# Altium footprint library Oscillators.PcbLib: 8 footprints
Each footprint in its own frame and in the unit in brackets; x right, y up, seen from the top. Pads: shape width x height; smd on the part's side, far side on the other; paste and mask are expansions set on the pad; w line width, h text height; cw(c..) or ccw(c..) is an arc to the next point about the centre after c.
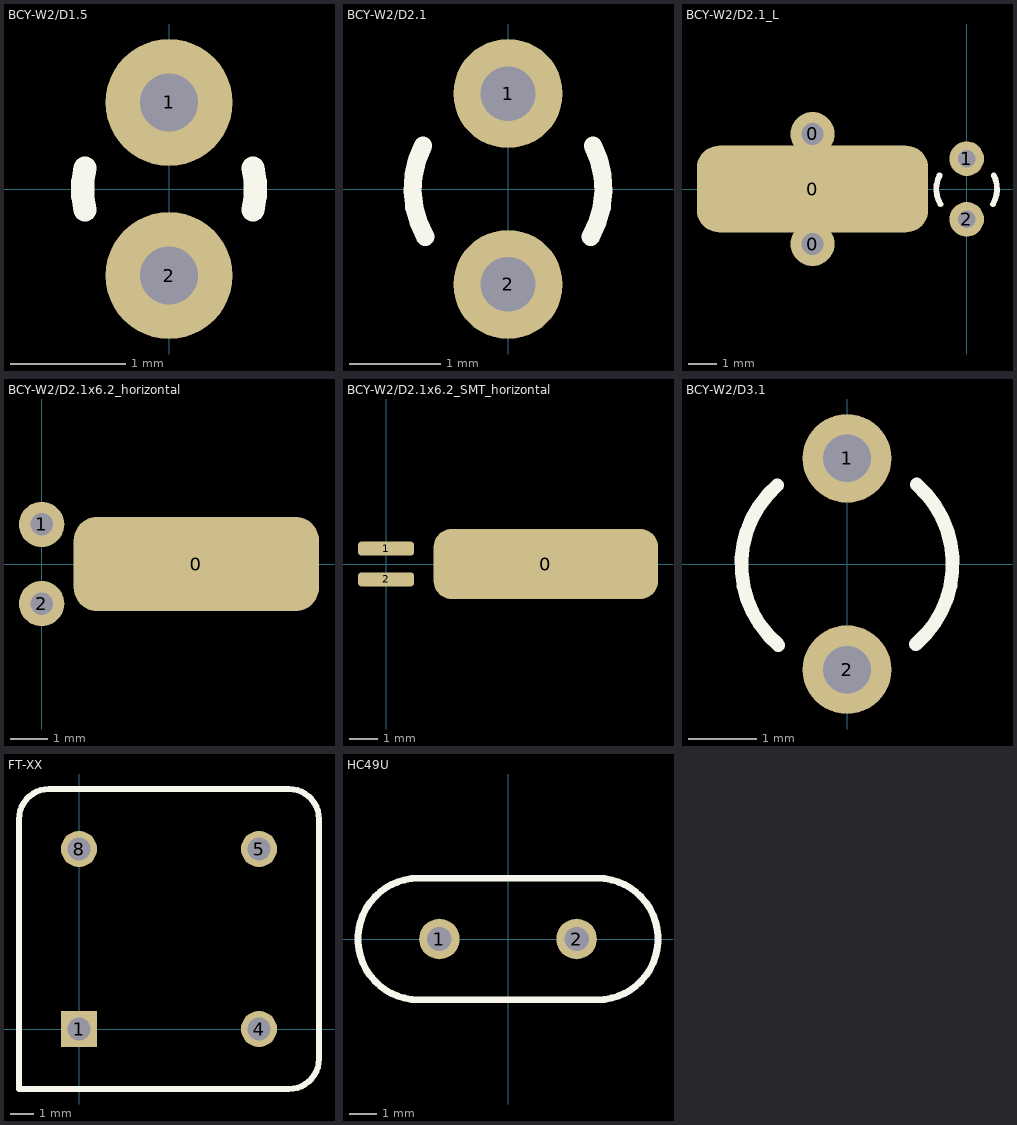
[diagram p0: the footprints below, top view; thin cyan lines are the x and y axes]

## BCY-W2/D1.5 [mm] "Crystal, Thru-Hole; 2 Leads; Body 1.5 x 5.1 mm (Dia.xH)"
height 5.1
pads (2):
  round 1.1 hole 0.5: 1(0,0.75) 2(0,-0.75)
Top Overlay:
  lines w0.2: -0.728,-0.181 cw(c0,0) -0.728,0.181 ; 0.728,-0.181 ccw(c0,0) 0.728,0.181

## BCY-W2/D2.1 [mm] "Crystal, Thru-Hole; 2 Leads; Body 2.1 x 6.2 mm (Dia.xH)"
height 6.2
pads (2):
  round 1.2 hole 0.6: 1(0,1.05) 2(0,-1.05)
Top Overlay:
  lines w0.2: -0.936,0.477 ccw(c0,0) -0.909,-0.525 ; 0.909,-0.525 ccw(c0,0) 0.936,0.477

## BCY-W2/D2.1_L [mm] "Crystal, Thru-Hole; 2 Leads; Body 2.1 x 6.2 mm (Dia.xH)"
height 6.2
pads (5):
  round 1.524 hole 0.762: 0(-5.334,-1.905) 0(-5.334,1.905)
  rrect50% 8x3 smd: 0(-5.334,0)
  round 1.2 hole 0.6: 1(0,1.05) 2(0,-1.05)
Top Overlay:
  lines w0.2: -0.936,0.477 ccw(c0,0) -0.909,-0.525 ; 0.909,-0.525 ccw(c0,0) 0.936,0.477

## BCY-W2/D2.1x6.2_horizontal [mm] "Crystal, Thru-Hole; 2 Leads; Body 2.1 x 6.2 mm (Dia.xH) Horizontal"
height 3
pads (3):
  rrect50% 6.5x2.5 smd: 0(4.1,0)
  round 1.2 hole 0.6: 1(0,1.05) 2(0,-1.05)
3D body: height 1.99, standoff 0, extent 1,-0.998 7.2,0.998

## BCY-W2/D2.1x6.2_SMT_horizontal [mm] "Crystal, Thru-Hole; 2 Leads; Body 2.1 x 6.2 mm (Dia.xH) Horizontal"
height 3
pads (3):
  rrect50% 8x2.5 smd: 0(5.7,0)
  rrect50% 2x0.5 smd: 1(0,0.55) 2(0,-0.55)
3D body: height 1.99, standoff 0, extent 1.7,-1 9.7,0.996

## BCY-W2/D3.1 [mm] "Crystal, Thru-Hole; 2 Leads; Body 3.1 x 8.2 mm (Dia.xH)"
height 8.2
pads (2):
  round 1.3 hole 0.7: 1(0,1.55) 2(0,-1.55)
Top Overlay:
  lines w0.2: -1.022,1.155 ccw(c0,-0.01) -1.006,-1.189 ; 1.006,-1.179 ccw(c0,0) 1.022,1.165

## FT-XX [mil]
pads (4):
  rect 60x60 hole 38: 1(0,0)
  round 60 hole 38: 4(300,0) 5(300,300) 8(0,300)
Top Overlay:
  lines w10: -100,-100 350,-100 ccw(c350,-50) 400,-50 400,350 ccw(c350,350) 350,400 -50,400 ccw(c-50,350) -100,350 -100,-100

## HC49U [mm] "Crystal, Thru-Hole; 2 Leads; Body 11 x 4.5 mm (WxH)"
height 3.5
pads (2):
  round 1.5 hole 0.9: 1(-2.54,0) 2(2.54,0)
Top Overlay:
  lines w0.254: -3.3,-2.25 cw(c-3.3,0) -3.3,2.25 3.3,2.25 cw(c3.3,0) 3.3,-2.25 -3.3,-2.25
3D body: height 3, standoff 0, extent -5.588,-2.286 5.462,2.364